# Altium footprint library Keyboard.PcbLib: 46 footprints (part 3 of 3)
Each footprint in its own frame and in the unit in brackets; x right, y up, seen from the top. Pads: shape width x height; smd on the part's side, far side on the other; paste and mask are expansions set on the pad; w line width, h text height; cw(c..) or ccw(c..) is an arc to the next point about the centre after c.
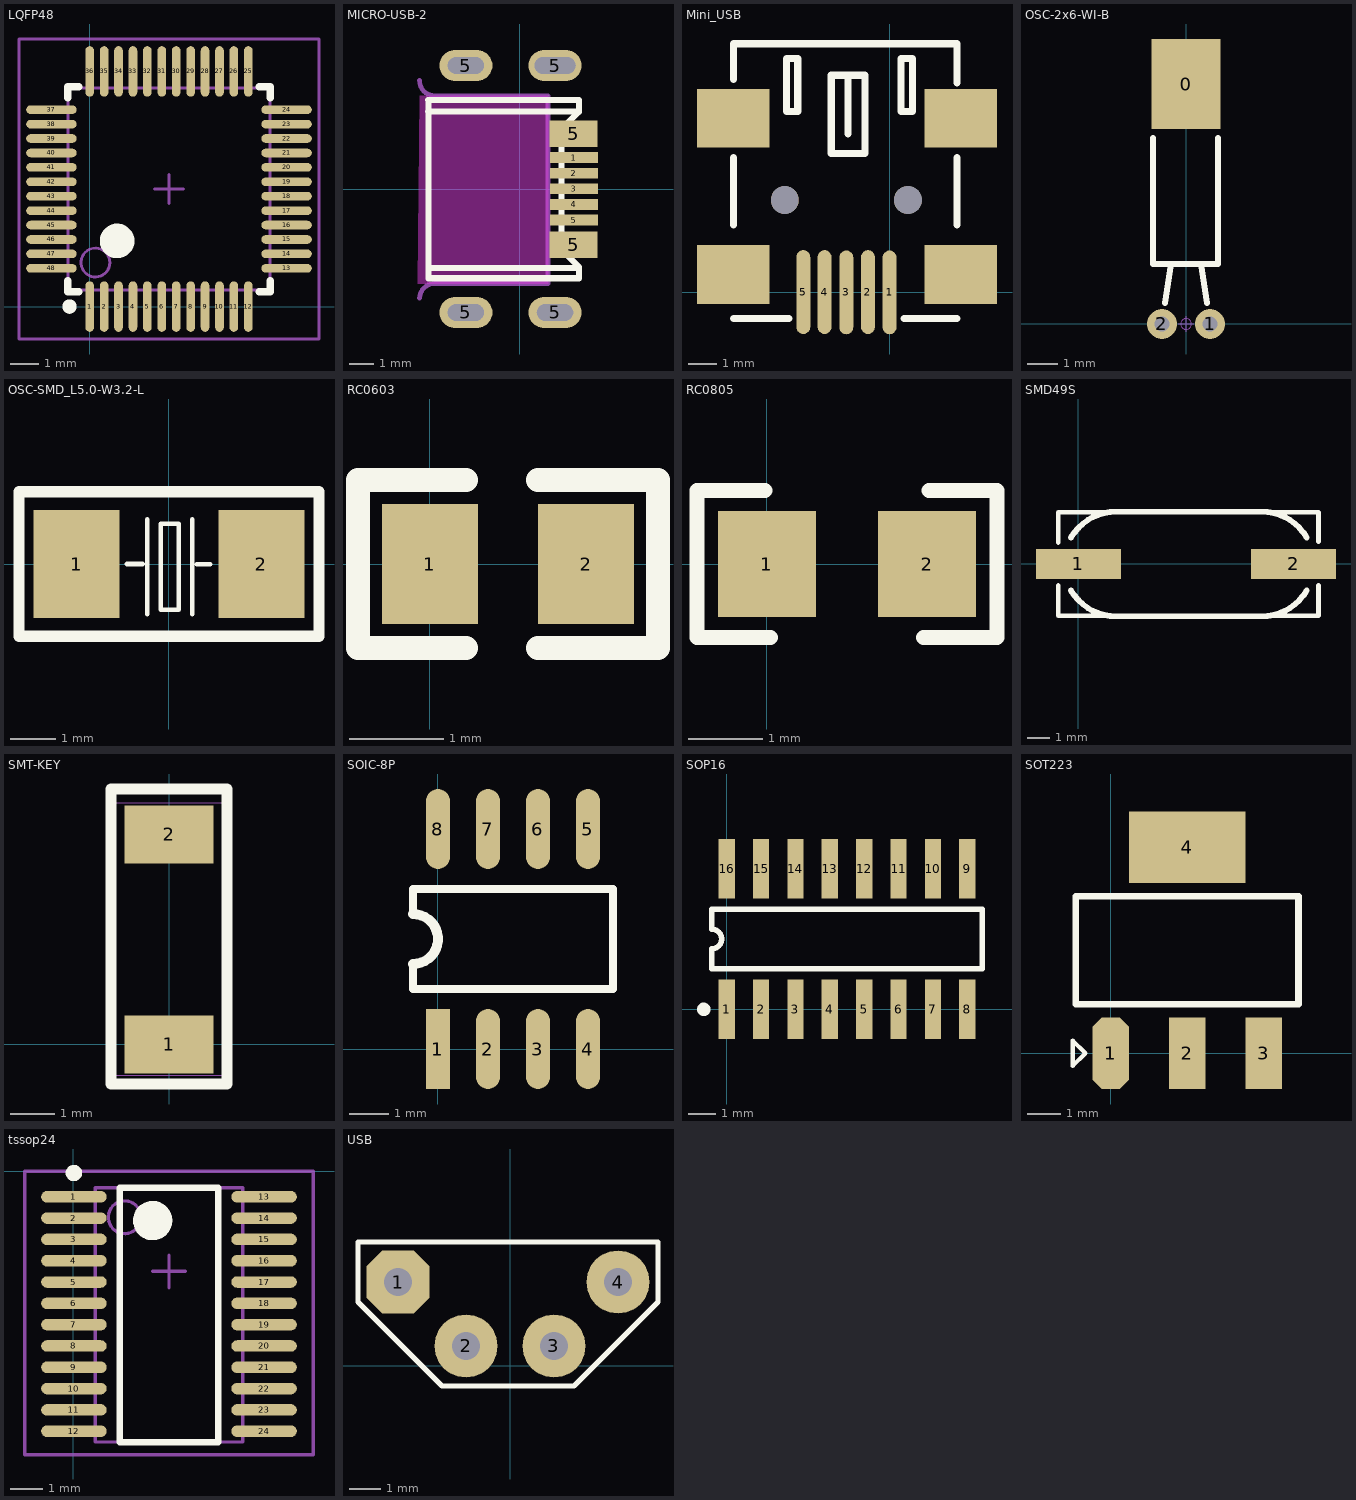
[diagram p2: the footprints below, top view; thin cyan lines are the x and y axes]

## LQFP48 [mm]
pads (48):
  oval 0.3x1.75 smd: 1(0,0) 2(0.5,0) 3(1,0) 4(1.5,0) 5(2,0) 6(2.5,0) 7(3,0) 8(3.5,0) 9(4,0) 10(4.5,0) 11(5,0) 12(5.5,0) 25(5.5,8.15) 26(5,8.15) 27(4.5,8.15) 28(4,8.15) 29(3.5,8.15) 30(3,8.15) 31(2.5,8.15) 32(2,8.15) 33(1.5,8.15) 34(1,8.15) 35(0.5,8.15) 36(0,8.15)
  oval 1.75x0.3 smd: 13(6.825,1.325) 14(6.825,1.825) 15(6.825,2.325) 16(6.825,2.825) 17(6.825,3.325) 18(6.825,3.825) 19(6.825,4.325) 20(6.825,4.825) 21(6.825,5.325) 22(6.825,5.825) 23(6.825,6.325) 24(6.825,6.825) 37(-1.325,6.825) 38(-1.325,6.325) 39(-1.325,5.825) 40(-1.325,5.325) 41(-1.325,4.825) 42(-1.325,4.325) 43(-1.325,3.825) 44(-1.325,3.325) 45(-1.325,2.825) 46(-1.325,2.325) 47(-1.325,1.825) 48(-1.325,1.325)
Top Overlay:
  circle w0.25: c-0.7,0 r0.125
  circle w0.6: c0.95,2.275 r0.3
  lines w0.254: -0.762,0.889 -0.762,0.508 -0.381,0.508 ; -0.762,7.239 -0.762,7.62 -0.381,7.62 ; 5.882,0.508 6.263,0.508 6.263,0.889 ; 5.882,7.62 6.263,7.62 6.263,7.239
Mechanical 13:
  circle w0.1: c0.2,1.525 r0.5
  lines w0.1: -0.75,0.575 6.25,0.575 6.25,7.575 -0.75,7.575 -0.75,0.575
Mechanical 15:
  lines w0.1: 2.25,4.075 3.25,4.075 ; 2.75,3.575 2.75,4.575 ; -2.45,-1.125 7.95,-1.125 7.95,9.275 -2.45,9.275 -2.45,-1.125
3D body: height 1.6, standoff 0, extent -0.75,0.575 6.25,7.575

## MICRO-USB-2 [mm]
pads (11):
  rect 2x0.45 smd: 1(2.243,1.307) 2(2.243,0.656) 3(2.243,0.007) 4(2.243,-0.643) 5(2.243,-1.293)
  oval 2.2x1.3 hole 0.7 slot 1.5 at 0 deg: 5(-2.243,-5.126) 5(-2.243,5.126) 5(1.458,-5.126)
  oval 2.2x1.3 hole 0.7 slot 1.701 at 0 deg: 5(1.458,5.126)
  rect 2x1.1 smd: 5(2.228,-2.304) 5(2.228,2.296)
Top Overlay:
  lines w0.254: -3.812,3.217 2.436,3.217 ; -3.812,3.697 2.449,3.697 ; -3.802,3.697 -3.802,-3.705 2.449,-3.705 2.449,-3.235 1.737,-2.524 ; -3.792,-3.273 2.459,-3.273 ; 1.727,-2.503 1.727,2.495 ; 1.737,2.498 2.449,3.207 2.449,3.676
Keep-Out Layer:
  board cut-out: -4.163,3.873 1.171,3.873 1.171,-3.933 -4.183,-3.923 -4.233,-3.923
Mechanical 1:
  lines w0.2: -4.163,-4.53 cw(c-3.545,-4.541) -3.534,-3.923 1.161,-3.923 1.171,-3.933 1.171,3.873 -3.556,3.873 cw(c-3.545,4.491) -4.163,4.502

## Mini_USB [mm]
pads (11):
  oval 0.5x3 smd: 1(0,0) 2(-0.775,0.009) 3(-1.549,0) 4(-2.324,0.009) 5(-3.086,0.009)
  rect 2.6x2.1 smd: ""(-5.588,0.635) ""(-5.588,6.223) ""(2.54,0.635) ""(2.54,6.223)
  round 1 hole 1: ""(-3.749,3.299) ""(0.651,3.299)
Top Overlay:
  lines w0.254: -5.588,2.413 -5.588,4.826 ; -5.586,-0.938 -3.607,-0.938 ; -5.586,7.62 -5.586,8.89 2.414,8.89 2.414,7.493 ; -1.486,5.662 -1.486,7.762 ; 0.514,-0.938 2.414,-0.938 ; 2.413,2.413 2.413,4.826 ; -3.686,6.462 -3.286,6.462 -3.286,8.362 -3.686,8.362 -3.686,6.462 ; -2.086,4.962 -2.086,7.762 -0.886,7.762 -0.886,4.962 -2.086,4.962 ; 0.414,6.462 0.814,6.462 0.814,8.362 0.414,8.362 0.414,6.462

## OSC-2x6-WI-B [mm] "脚距：1.6mm"
pads (3):
  rect 2.3x3 smd: 0(0,8)
  round 1 hole 0.5: 1(0.8,0) 2(-0.8,0)
Top Overlay:
  lines w0.2: -1.1,6.2 -1.1,2 1.072,2 1.072,6.2 ; -0.7,0.7 -0.5,2 ; 0.5,2 0.7,0.7
Mechanical 15:
  circle w0.04: c0,0 r0.18
  lines w0.04: -0.254,0 0.254,0 ; 0,-0.254 0,0.254
3D body "OSC-2x6-WI.STEP": height 2.05, standoff -2.6, extent -1,-0.157 1,8

## OSC-SMD_L5.0-W3.2-L [mm]
pads (2):
  rect 1.9x2.4 smd: 1(-2.05,0) 2(2.05,0)
Top Overlay:
  lines w0.1: -0.94,0 -0.584,0 ; -0.483,-1.109 -0.483,0.991 ; 0.517,-1.109 0.517,0.991 ; 0.617,-0.009 0.917,-0.009 ; -0.183,-1.009 -0.183,0.89 0.217,0.89 0.217,-1.009 -0.183,-1.009
  lines w0.254: -3.325,-1.6 3.325,-1.6 3.325,-0.7 3.325,0.7 3.325,1.6 -3.325,1.6 -3.325,0.7 -3.325,-0.7 -3.325,-1.6

## RC0603 [mil]
pads (2):
  rect 40x50 smd: 1(0,0) 2(65,0)
Top Overlay:
  lines w10: 15,-35 -30,-35 -30,35 15,35 ; 45,-35 95,-35 95,35 45,35

## RC0805 [mil]
pads (2):
  rect 52x56 smd: 1(0,0) 2(85,0)
Top Overlay:
  lines w8: -1,39 -37,39 -37,-39 2,-39 ; 83,-39 122,-39 122,39 86,39

## SMD49S [mil]
pads (2):
  rect 146x51 smd: 1(0,0) 2(370,0)
Top Overlay:
  lines w8: -35,-37 -35,-89 413,-89 413,-37 ; -35,37 -35,89 413,89 413,38
  lines w10: -12.57,-45.63 ccw(c65,0) 65,-90 315,-90 ccw(c315,0) 392.57,-45.63 ; -12.57,45.63 cw(c65,0) 65,90 ; 55,90 315,90 cw(c315,0) 392.57,45.63

## SMT-KEY [mm]
pads (2):
  rect 2x1.3 smd paste+0 mask+0.2: 1(0,0) 2(0,4.7)
Top Overlay:
  lines w0.254: -1.3,-0.888 1.3,-0.888 1.3,5.716 -1.3,5.716 -1.3,-0.888
Mechanical 1:
  lines w0.025: -1.3,-0.695 1.3,-0.695 1.3,5.405 -1.3,5.405 -1.3,-0.695
Mechanical 2:
  lines w0.003: -1.3,-0.695 1.3,-0.695 1.3,5.405 -1.3,5.405 -1.3,-0.695

## SOIC-8P [mil]
pads (8):
  rect 24x80 smd mask+3: 1(0,0)
  oval 24x80 smd mask+3: 2(50,0) 3(100,0) 4(150,0) 5(150,220) 6(100,220) 7(50,220) 8(0,220)
Top Overlay:
  lines w8: -25,85 -25,60 175,60 175,160 -25,160 -25,135
  lines w10: -25,85 ccw(c-25,110) -25,135

## SOP16 [mm]
pads (16):
  rect 0.6x2.2 smd: 1(0,0) 2(1.27,0) 3(2.54,0) 4(3.81,0) 5(5.08,0) 6(6.35,0) 7(7.62,0) 8(8.89,0) 9(8.89,5.2) 10(7.62,5.2) 11(6.35,5.2) 12(5.08,5.2) 13(3.81,5.2) 14(2.54,5.2) 15(1.27,5.2) 16(0,5.2)
Top Overlay:
  circle w0.25: c-0.85,0 r0.125
  lines w0.2: -0.555,1.5 -0.555,2.233 ccw(c-0.555,2.6) -0.555,2.967 -0.555,3.7 9.445,3.7 9.445,1.5 -0.555,1.5

## SOT223 [mm]
pads (4):
  oct 1.1x2.15 smd: 1(0,0)
  rect 1.1x2.15 smd: 2(2.3,0) 3(4.6,0)
  rect 3.5x2.15 smd: 4(2.3,6.2)
Top Overlay:
  lines w0.127: -1.143,-0.381 -1.143,0.381 -0.762,0 -1.143,-0.381
  lines w0.2: -1.05,1.475 5.65,1.475 5.65,4.725 -1.05,4.725 -1.05,1.475

## tssop24 [mm]
height 1
pads (24):
  oval 2x0.35 smd: 1(0.021,-0.773) 2(0.021,-1.423) 3(0.021,-2.073) 4(0.021,-2.723) 5(0.021,-3.373) 6(0.021,-4.023) 7(0.021,-4.673) 8(0.021,-5.323) 9(0.021,-5.973) 10(0.021,-6.623) 11(0.021,-7.273) 12(0.021,-7.923) 13(5.821,-0.773) 14(5.821,-1.423) 15(5.821,-2.073) 16(5.821,-2.723) 17(5.821,-3.373) 18(5.821,-4.023) 19(5.821,-4.673) 20(5.821,-5.323) 21(5.821,-5.973) 22(5.821,-6.623) 23(5.821,-7.273) 24(5.821,-7.923)
Top Overlay:
  circle w0.25: c0.021,-0.048 r0.125
  circle w0.6: c2.421,-1.498 r0.3
  lines w0.2: 1.421,-8.255 1.421,-0.498 4.421,-0.498 4.421,-8.255 1.421,-8.255
Mechanical 13:
  circle w0.1: c1.571,-1.398 r0.5
  lines w0.1: 0.671,-8.255 0.671,-0.498 5.171,-0.498 5.171,-8.255 0.671,-8.255
Mechanical 15:
  lines w0.1: 2.421,-3.048 3.421,-3.048 ; 2.921,-3.548 2.921,-2.548 ; -1.479,-8.638 0.721,-8.638 5.121,-8.638 7.321,-8.638 7.321,0.002 -1.479,0.002 -1.479,-8.638
3D body: height 1.1, standoff 0, extent 0.671,-8.255 5.171,-0.498

## USB [mm] "0.9mm焊盘 x 4"
height 3
pads (4):
  oct 2x2 hole 0.9: 1(-3.556,2.667)
  round 2 hole 0.9: 2(-1.397,0.635) 3(1.397,0.635) 4(3.429,2.667)
Top Overlay:
  lines w0.154: -4.826,2.032 -4.826,3.937 4.699,3.937 4.699,2.032 2.032,-0.635 -2.159,-0.635 -4.826,2.032